# EAGLE library part SCART-MALE-PINS-CONNECTOR-VERTICAL (library arcadetv)
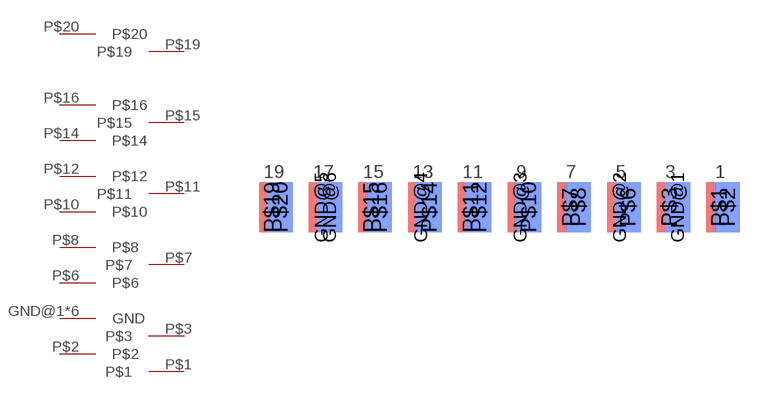
[diagram p4: symbol with the pads of SCART-MALE-PINS-CONNECTOR-VERTICAL; footprint SCART-MALE-PINS-CONNECTOR-VERTICAL]

Designator prefix -

## SCART-MALE-PINS-CONNECTOR-VERTICAL  [SCART-MALE-PINS-CONNECTOR-VERTICAL]
GND@1  GND
GND@2  GND
GND@3  GND
GND@4  GND
GND@5  GND
GND@6  GND
P$1  P$1
P$2  P$2
P$3  P$3
P$6  P$6
P$7  P$7
P$8  P$8
P$10  P$10
P$11  P$11
P$12  P$12
P$14  P$14
P$15  P$15
P$16  P$16
P$19  P$19
P$20  P$20

## Footprint SCART-MALE-PINS-CONNECTOR-VERTICAL (pad centres in mm)
smd 1.93 x 3.81 bottom: GND@1 -4.763,1.905; GND@6 -31.433,1.905; P$2 -0.953,1.905; P$6 -8.572,1.905; P$8 -12.383,1.905; P$10 -16.192,1.905; P$12 -20.003,1.905; P$14 -23.812,1.905; P$16 -27.622,1.905; P$20 -35.242,1.905
smd 1.93 x 3.81: GND@2 -9.207,1.905; GND@3 -16.828,1.905; GND@4 -24.448,1.905; GND@5 -32.068,1.905; P$1 -1.587,1.905; P$3 -5.397,1.905; P$7 -13.018,1.905; P$11 -20.637,1.905; P$15 -28.258,1.905; P$19 -35.877,1.905